# EAGLE library part TPS62175DQCR (library MF_IC_Power)
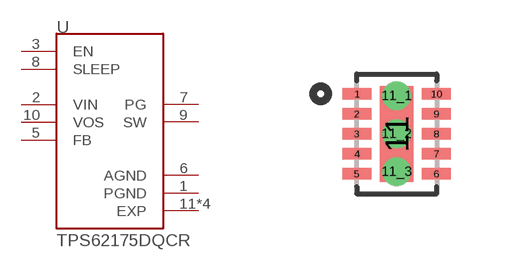
[diagram p7: symbol with the pads of SON50P300X200X80-11N240X84; footprint SON50P300X200X80-11N240X84]

Designator prefix U

## TPS62175DQCR (MANUFACTURER: TEXAS INSTRUMENTS; PACKAGE: SON-10; PARTREV: C; STANDARD: IPC 7351B)  [SON50P300X200X80-11N240X84]
1  PGND  pwr
2  VIN  in
3  EN  in
5  FB  in
6  AGND  pwr
7  PG  out
8  SLEEP  in
9  SW  out
10  VOS  in
11  EXP  pwr
11_1  EXP  pwr
11_2  EXP  pwr
11_3  EXP  pwr

## Footprint SON50P300X200X80-11N240X84 (pad centres in mm)
smd 0.74 x 0.27: 1 -0.995,1; 2 -0.995,0.5; 3 -0.995,0; 4 -0.995,-0.5; 5 -0.995,-1; 6 0.995,-1; 7 0.995,-0.5; 8 0.995,0; 9 0.995,0.5; 10 0.995,1
smd 0.84 x 2.4: 11 0,0
drill 0.2 pad 0.3: 11_1 0,0.95; 11_2 0,0; 11_3 0,-0.95